# EAGLE library part CONNECTOR-8_?_* (library HyTechDevices - Copy)
8 Pin Connector
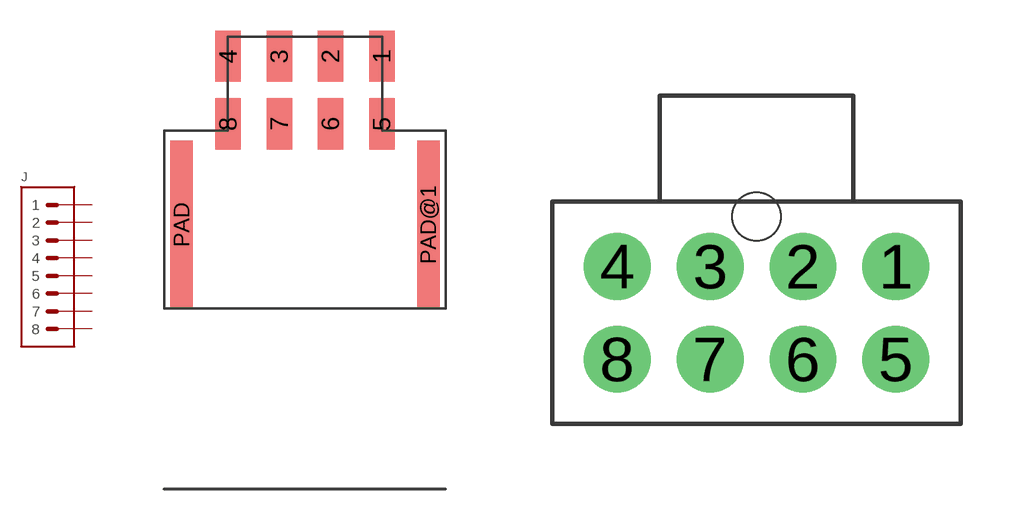
[diagram p10: symbol with the pads of MOLEX_NANOFIT_SMD_RIGHTANGLE_08; footprints MOLEX_NANOFIT_SMD_RIGHTANGLE_08, MOLEX_NANOFIT_PTH_08]

Designator prefix J

## CONNECTOR-8_NF_S_RA_BLACK (MANUFACTURER: Molex; MPN: 105405-1308)  [MOLEX_NANOFIT_SMD_RIGHTANGLE_08]
1  1  pas
2  2  pas
3  3  pas
4  4  pas
5  5  pas
6  6  pas
7  7  pas
8  8  pas

## CONNECTOR-8_NF_T_V_BLACK (MANUFACTURER: Molex; MPN: 105310-1308), CONNECTOR-8_NF_T_V_NATURAL (MANUFACTURER: Molex; MPN: 105310-2308)  [MOLEX_NANOFIT_PTH_08]
Pads as for MOLEX_NANOFIT_SMD_RIGHTANGLE_08

## CONNECTOR-8_MF_T_V_ (MANUFACTURER: MOLEX; MPN: 430450814)  [MOLEX_MICROFIT_PTH_VERTICAL_08_DUAL]
Pads as for MOLEX_NANOFIT_SMD_RIGHTANGLE_08

## Footprint MOLEX_NANOFIT_SMD_RIGHTANGLE_08 (pad centres in mm)
8 Pin Nano-Fit Vertical Header, PCB Mount, Dual Row Part <https://www.molex.com/molex/products/part-detail/pcb_headers/1054051208> Footprint <https://www.molex.com/pdm_docs/sd/1054051208_sd.pdf>
smd 1.24 x 2.5: 1 3.75,1.65; 2 1.25,1.65; 3 -1.25,1.65; 4 -3.75,1.65; 5 3.75,-1.65; 6 1.25,-1.65; 7 -1.25,-1.65; 8 -3.75,-1.65
smd 1.1 x 8.2: PAD -6.02,-6.58; PAD@1 6.02,-6.58

## Footprint MOLEX_NANOFIT_PTH_08 (pad centres in mm)
8 Pin Nano-Fit™ Vertical Header, Through Hole, Dual Row Part <https://www.molex.com/molex/products/part-detail/pcb_headers/1053101208> Footprint <https://www.molex.com/pdm_docs/sd/1053101208_sd.pdf>
drill 1.2: 1 3.75,0; 2 1.25,0; 3 -1.25,0; 4 -3.75,0; 5 3.75,-2.5; 6 1.25,-2.5; 7 -1.25,-2.5; 8 -3.75,-2.5
hole 1.3 at 0,1.34

## Footprint MOLEX_MICROFIT_PTH_VERTICAL_08_DUAL (pad centres in mm)
8 Pin Micro-Fit Vertical Header, Through-Hole, Dual Row Part <https://www.molex.com/molex/products/part-detail/pcb_headers/0430450814> Footprint <https://www.molex.com/pdm_docs/sd/430450814_sd.pdf> Plug Size <https://www.molex.com/pdm_docs/sd/430250800_sd.pdf>
drill 1.067: 1 4.496,-2.997; 2 1.499,-2.997; 3 -1.499,-2.997; 4 -4.496,-2.997; 5 4.496,0; 6 1.499,0; 7 -1.499,0; 8 -4.496,0
hole 1.067 at 7.493,0.94
hole 1.067 at -7.493,0.94